# Altium integrated library 晶振.IntLib: 3 symbols
Pins are listed as number, name and electrical type; pins without a type are passive.

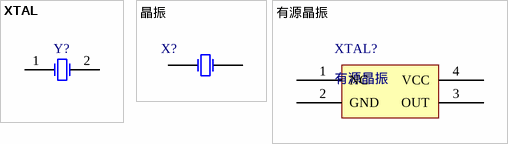
[diagram p0: symbols XTAL to 有源晶振]

## XTAL
designator Y?
Crystal Oscillator; Published: 8-Jun-2000; LatestRevisionDate: 17-Jul-2002; LatestRevisionNote: Re-released for DXP Platform.; PackageReference: R38; Publisher: Altium Limited; PackageDescription: Crystal, Thru-Hole; 2 Leads; Body 3.1 x 8.2 mm (Dia.xH)
footprint R38 (Crystal, Thru-Hole; 2 Leads; Body 3.1 x 8.2 mm (Dia.xH))
simulation model XTAL (Spice Subcircuit)
pins: 1 OSC1, 2 OSC2

## 晶振
designator X?  (value not drawn)
footprint 晶振
footprint 贴片晶振
footprint 小晶振
pins: 1 OSC1, 2 OSC2

## 有源晶振
designator XTAL?
footprint 有源晶振
pins: 1 NC, 2 GND, 3 OUT, 4 VCC